# EAGLE library part TLC5940 (library monome)
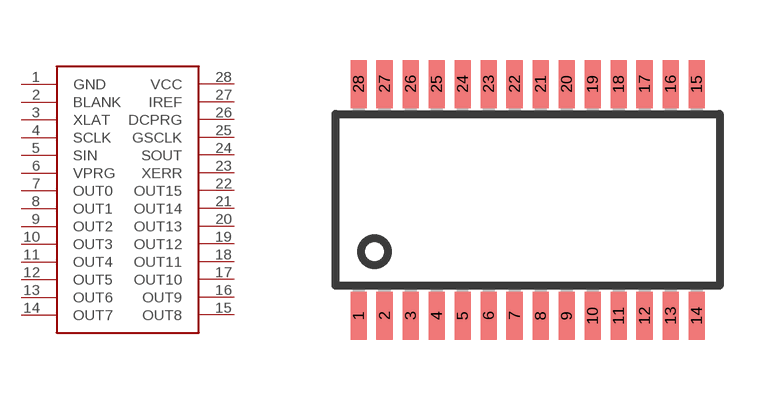
[diagram p22: symbol with the pads of R-PDSO-G28; footprint R-PDSO-G28]

Designator prefix -

## TLC5940  [R-PDSO-G28]
1  GND  sup
2  BLANK
3  XLAT
4  SCLK
5  SIN
6  VPRG
7  OUT0
8  OUT1
9  OUT2
10  OUT3
11  OUT4
12  OUT5
13  OUT6
14  OUT7
15  OUT8
16  OUT9
17  OUT10
18  OUT11
19  OUT12
20  OUT13
21  OUT14
22  OUT15
23  XERR
24  SOUT
25  GSCLK
26  DCPRG
27  IREF
28  VCC  sup

## Footprint R-PDSO-G28 (pad centres in mm)
PLASTIC SMALL-OUTLINE PACKAGE SO 28 JEDEC MO-153 Source: www.ti.com/.. slvs087l.pdf
smd 0.4 x 1.2: 1 -4.225,-2.9; 2 -3.575,-2.9; 3 -2.925,-2.9; 4 -2.275,-2.9; 5 -1.625,-2.9; 6 -0.975,-2.9; 7 -0.325,-2.9; 8 0.325,-2.9; 9 0.975,-2.9; 10 1.625,-2.9; 11 2.275,-2.9; 12 2.925,-2.9; 13 3.575,-2.9; 14 4.225,-2.9; 15 4.225,2.9; 16 3.575,2.9; 17 2.925,2.9; 18 2.275,2.9; 19 1.625,2.9; 20 0.975,2.9; 21 0.325,2.9; 22 -0.325,2.9; 23 -0.975,2.9; 24 -1.625,2.9; 25 -2.275,2.9; 26 -2.925,2.9; 27 -3.575,2.9; 28 -4.225,2.9